# Altium schematic symbol library Schlib1.SchLib: 4 symbols
Pins are listed as number, name and electrical type; pins without a type are passive.

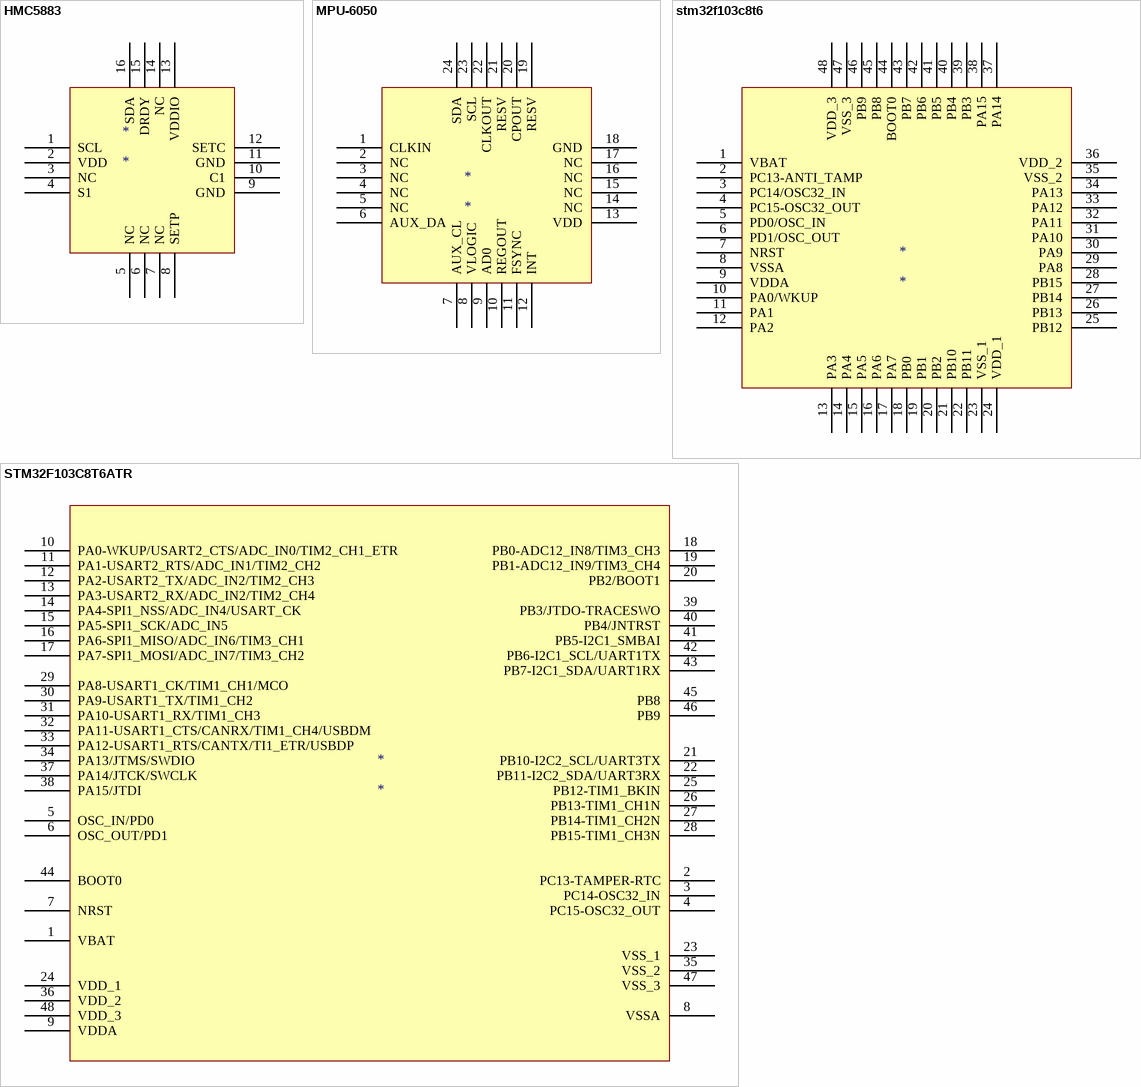
[diagram p0: symbols HMC5883 to STM32F103C8T6ATR]

## HMC5883
designator *
pins: 1 SCL, 2 VDD, 3 NC, 4 S1, 5 NC, 6 NC, 7 NC, 8 SETP, 9 GND, 10 C1, 11 GND, 12 SETC, 13 VDDIO, 14 NC, 15 DRDY, 16 SDA

## MPU-6050
designator *
pins: 1 CLKIN, 2 NC, 3 NC, 4 NC, 5 NC, 6 AUX_DA, 7 AUX_CL, 8 VLOGIC, 9 AD0, 10 REGOUT, 11 FSYNC, 12 INT, 13 VDD, 14 NC, 15 NC, 16 NC, 17 NC, 18 GND, 19 RESV, 20 CPOUT, 21 RESV, 22 CLKOUT, 23 SCL, 24 SDA

## stm32f103c8t6
designator *
pins: 1 VBAT, 2 PC13-ANTI_TAMP, 3 PC14/OSC32_IN, 4 PC15-OSC32_OUT, 5 PD0/OSC_IN, 6 PD1/OSC_OUT, 7 NRST, 8 VSSA, 9 VDDA, 10 PA0/WKUP, 11 PA1, 12 PA2, 13 PA3, 14 PA4, 15 PA5, 16 PA6, 17 PA7, 18 PB0, 19 PB1, 20 PB2, 21 PB10, 22 PB11, 23 VSS_1, 24 VDD_1, 25 PB12, 26 PB13, 27 PB14, 28 PB15, 29 PA8, 30 PA9, 31 PA10, 32 PA11, 33 PA12, 34 PA13, 35 VSS_2, 36 VDD_2, 37 PA14, 38 PA15, 39 PB3, 40 PB4, 41 PB5, 42 PB6, 43 PB7, 44 BOOT0, 45 PB8, 46 PB9, 47 VSS_3, 48 VDD_3

## STM32F103C8T6ATR
designator *
pins: 1 VBAT, 2 PC13-TAMPER-RTC, 3 PC14-OSC32_IN, 4 PC15-OSC32_OUT, 5 OSC_IN/PD0, 6 OSC_OUT/PD1, 7 NRST, 8 VSSA, 9 VDDA, 10 PA0-WKUP/USART2_CTS/ADC_IN0/TIM2_CH1_ETR, 11 PA1-USART2_RTS/ADC_IN1/TIM2_CH2, 12 PA2-USART2_TX/ADC_IN2/TIM2_CH3, 13 PA3-USART2_RX/ADC_IN2/TIM2_CH4, 14 PA4-SPI1_NSS/ADC_IN4/USART_CK, 15 PA5-SPI1_SCK/ADC_IN5, 16 PA6-SPI1_MISO/ADC_IN6/TIM3_CH1, 17 PA7-SPI1_MOSI/ADC_IN7/TIM3_CH2, 18 PB0-ADC12_IN8/TIM3_CH3, 19 PB1-ADC12_IN9/TIM3_CH4, 20 PB2/BOOT1, 21 PB10-I2C2_SCL/UART3TX, 22 PB11-I2C2_SDA/UART3RX, 23 VSS_1, 24 VDD_1, 25 PB12-TIM1_BKIN, 26 PB13-TIM1_CH1N, 27 PB14-TIM1_CH2N, 28 PB15-TIM1_CH3N, 29 PA8-USART1_CK/TIM1_CH1/MCO, 30 PA9-USART1_TX/TIM1_CH2, 31 PA10-USART1_RX/TIM1_CH3, 32 PA11-USART1_CTS/CANRX/TIM1_CH4/USBDM, 33 PA12-USART1_RTS/CANTX/TI1_ETR/USBDP, 34 PA13/JTMS/SWDIO, 35 VSS_2, 36 VDD_2, 37 PA14/JTCK/SWCLK, 38 PA15/JTDI, 39 PB3/JTDO-TRACESWO, 40 PB4/JNTRST, 41 PB5-I2C1_SMBAI, 42 PB6-I2C1_SCL/UART1TX, 43 PB7-I2C1_SDA/UART1RX, 44 BOOT0, 45 PB8, 46 PB9, 47 VSS_3, 48 VDD_3